# Altium schematic symbol library ESD1065P.SchLib: 1 symbol
Pins are listed as number, name and electrical type; pins without a type are passive.

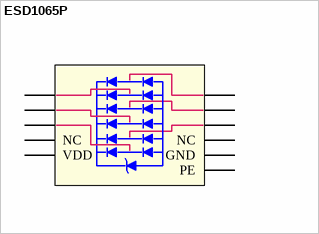
[diagram p0: symbol ESD1065P]

## ESD1065P
designator D?
pins: 1 I/O-1, 2 VDD (power), 3 NC, 4 I/O-2, 5 I/O-3, 6 I/O-4, 7 I/O-5, 8 NC, 9 GND (power), 10 I/O-6, 11 PE (power)